# Altium integrated library Big_Library_Led_THT.IntLib: 1 symbol
Pins are listed as number, name and electrical type; pins without a type are passive.

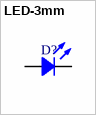
[diagram p0: symbol LED-3mm]

## LED-3mm
designator D?
SMD Chip LED; Luminous: *; Forward Voltage: *; Forward Current: *; Max Power: *; Package: 3mm; ComponentLink1Description: Link; ComponentLink1URL: *
footprint 3mm-blue
footprint 3mm-green
footprint 3mm-red
footprint 3mm-yellow
pins: 1, 2